# Altium footprint library micro-siemens.PCBLIB: 57 footprints (part 4 of 5)
Each footprint in its own frame and in the unit in brackets; x right, y up, seen from the top. Pads: shape width x height; smd on the part's side, far side on the other; paste and mask are expansions set on the pad; w line width, h text height; cw(c..) or ccw(c..) is an arc to the next point about the centre after c.
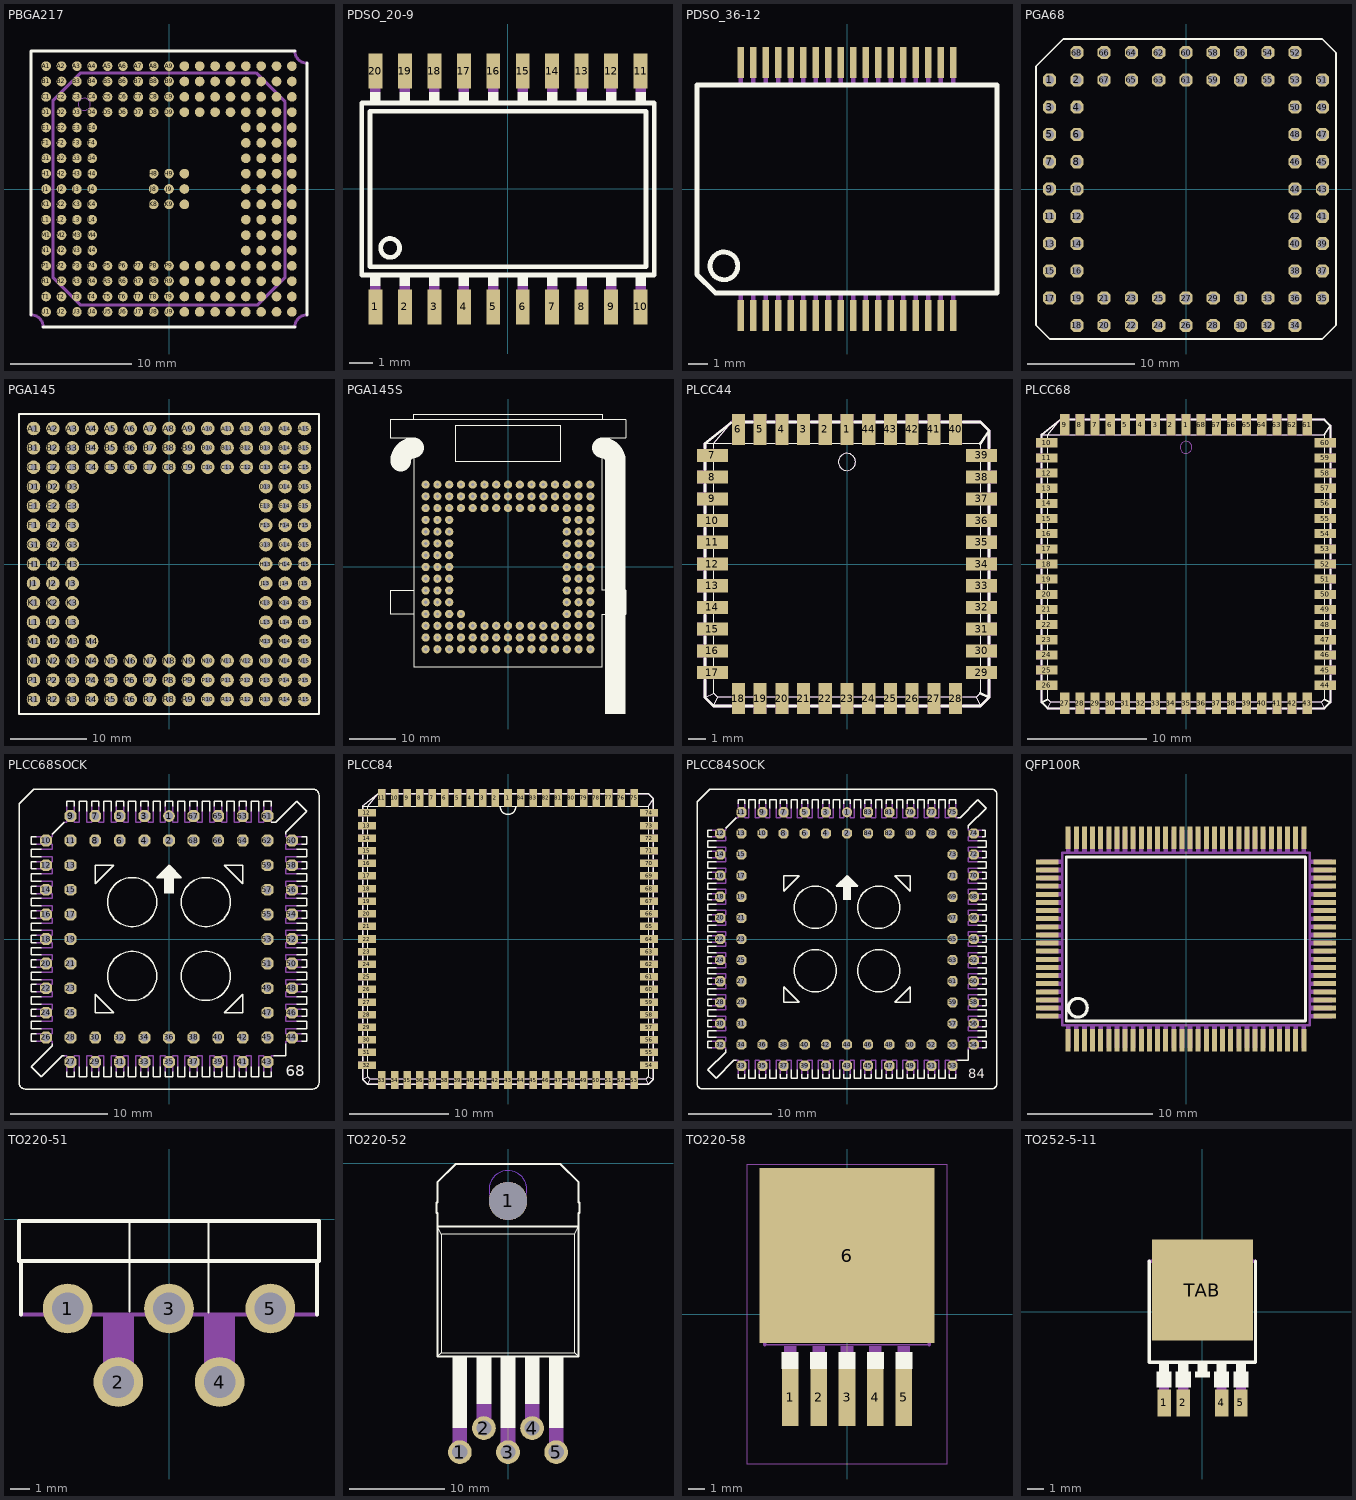
[diagram p3: the footprints below, top view; thin cyan lines are the x and y axes]

## PBGA217 [mil]
pads (217):
  rrect100% 31.5x31.5 smd: A1(-400,400) A2(-350,400) A3(-300,400) A4(-250,400) A5(-200,400) A6(-150,400) A7(-100,400) A8(-50,400) A9(0,400) A10(50,400) A11(100,400) A12(150,400) A13(200,400) A14(250,400) A15(300,400) A16(350,400) A17(400,400) B1(-400,350) B2(-350,350) B3(-300,350) B4(-250,350) B5(-200,350) B6(-150,350) B7(-100,350) B8(-50,350) B9(0,350) B10(50,350) B11(100,350) B12(150,350) B13(200,350) B14(250,350) B15(300,350) B16(350,350) B17(400,350) C1(-400,300) C2(-350,300) C3(-300,300) C4(-250,300) C5(-200,300) C6(-150,300) C7(-100,300) C8(-50,300) C9(0,300) C10(50,300) C11(100,300) C12(150,300) C13(200,300) C14(250,300) C15(300,300) C16(350,300) C17(400,300) D1(-400,250) D2(-350,250) D3(-300,250) D4(-250,250) D5(-200,250) D6(-150,250) D7(-100,250) D8(-50,250) D9(0,250) D10(50,250) D11(100,250) D12(150,250) D13(200,250) D14(250,250) D15(300,250) D16(350,250) D17(400,250) E1(-400,200) E2(-350,200) E3(-300,200) E4(-250,200) E14(250,200) E15(300,200) E16(350,200) E17(400,200) F1(-400,150) F2(-350,150) F3(-300,150) F4(-250,150) F14(250,150) F15(300,150) F16(350,150) F17(400,150) G1(-400,100) G2(-350,100) G3(-300,100) G4(-250,100) G14(250,100) G15(300,100) G16(350,100) G17(400,100) H1(-400,50) H2(-350,50) H3(-300,50) H4(-250,50) H8(-50,50) H9(0,50) H10(50,50) H14(250,50) H15(300,50) H16(350,50) H17(400,50) J1(-400,0) J2(-350,0) J3(-300,0) J4(-250,0) J8(-50,0) J9(0,0) J10(50,0) J14(250,0) J15(300,0) J16(350,0) J17(400,0) K1(-400,-50) K2(-350,-50) K3(-300,-50) K4(-250,-50) K8(-50,-50) K9(0,-50) K10(50,-50) K14(250,-50) K15(300,-50) K16(350,-50) K17(400,-50) L1(-400,-100) L2(-350,-100) L3(-300,-100) L4(-250,-100) L14(250,-100) L15(300,-100) L16(350,-100) L17(400,-100) M1(-400,-150) M2(-350,-150) M3(-300,-150) M4(-250,-150) M14(250,-150) M15(300,-150) M16(350,-150) M17(400,-150) N1(-400,-200) N2(-350,-200) N3(-300,-200) N4(-250,-200) N14(250,-200) N15(300,-200) N16(350,-200) N17(400,-200) P1(-400,-250) P2(-350,-250) P3(-300,-250) P4(-250,-250) P5(-200,-250) P6(-150,-250) P7(-100,-250) P8(-50,-250) P9(0,-250) P10(50,-250) P11(100,-250) P12(150,-250) P13(200,-250) P14(250,-250) P15(300,-250) P16(350,-250) P17(400,-250) R1(-400,-300) R2(-350,-300) R3(-300,-300) R4(-250,-300) R5(-200,-300) R6(-150,-300) R7(-100,-300) R8(-50,-300) R9(0,-300) R10(50,-300) R11(100,-300) R12(150,-300) R13(200,-300) R14(250,-300) R15(300,-300) R16(350,-300) R17(400,-300) T1(-400,-350) T2(-350,-350) T3(-300,-350) T4(-250,-350) T5(-200,-350) T6(-150,-350) T7(-100,-350) T8(-50,-350) T9(0,-350) T10(50,-350) T11(100,-350) T12(150,-350) T13(200,-350) T14(250,-350) T15(300,-350) T16(350,-350) T17(400,-350) U1(-400,-400) U2(-350,-400) U3(-300,-400) U4(-250,-400) U5(-200,-400) U6(-150,-400) U7(-100,-400) U8(-50,-400) U9(0,-400) U10(50,-400) U11(100,-400) U12(150,-400) U13(200,-400) U14(250,-400) U15(300,-400) U16(350,-400) U17(400,-400)
Top Overlay:
  lines w10: -448.82,-409.45 -448.82,448.82 409.45,448.82 ; -409.45,-448.82 409.45,-448.82 ; 448.82,-409.45 448.82,409.45
Mechanical 16:
  circle w0: c-275.59,275.59 r19.69
  lines w10: -448.82,-409.45 cw(c-448.82,-448.82) -409.45,-448.82 ; 409.45,-448.82 cw(c448.82,-448.82) 448.82,-409.45 ; 409.45,448.82 ccw(c448.82,448.82) 448.82,409.45 ; -377.95,-287.4 -287.4,-377.95 287.4,-377.95 377.95,-287.4 377.95,283.46 283.46,377.95 -287.4,377.95 -377.95,287.4 -377.95,-287.4

## PDSO_20-9 [mm]
pads (20):
  rect 0.6x1.5 smd: 1(-5.715,-5.08) 2(-4.445,-5.08) 3(-3.175,-5.08) 4(-1.905,-5.08) 5(-0.635,-5.08) 6(0.635,-5.08) 7(1.905,-5.08) 8(3.175,-5.08) 9(4.445,-5.08) 10(5.715,-5.08) 11(5.715,5.08) 12(4.445,5.08) 13(3.175,5.08) 14(1.905,5.08) 15(0.635,5.08) 16(-0.635,5.08) 17(-1.905,5.08) 18(-3.175,5.08) 19(-4.445,5.08) 20(-5.715,5.08)
Top Overlay:
  circle w0.203: c-5.08,-2.54 r0.406
  rectangle: -5.944,-4.191 -5.486,-3.734
  rectangle: -4.674,-4.191 -4.216,-3.734
  rectangle: -3.404,-4.191 -2.946,-3.734
  rectangle: -2.134,-4.191 -1.676,-3.734
  rectangle: -0.864,-4.191 -0.406,-3.734
  rectangle: 0.406,-4.191 0.864,-3.734
  rectangle: 1.676,-4.191 2.134,-3.734
  rectangle: 2.946,-4.191 3.404,-3.734
  rectangle: 4.216,-4.191 4.674,-3.734
  rectangle: 5.486,-4.191 5.944,-3.734
  rectangle: 5.486,3.734 5.944,4.191
  rectangle: 4.216,3.734 4.674,4.191
  rectangle: 2.946,3.734 3.404,4.191
  rectangle: 1.676,3.734 2.134,4.191
  rectangle: 0.406,3.734 0.864,4.191
  rectangle: -0.864,3.734 -0.406,4.191
  rectangle: -2.134,3.734 -1.676,4.191
  rectangle: -3.404,3.734 -2.946,4.191
  rectangle: -4.674,3.734 -4.216,4.191
  rectangle: -5.944,3.734 -5.486,4.191
  lines w0.203: -6.299,-3.708 6.299,-3.708 6.299,3.708 -6.299,3.708 -6.299,-3.708 ; -5.944,-3.353 5.944,-3.353 5.944,3.353 -5.944,3.353 -5.944,-3.353
Mechanical 16:
  rectangle: -5.944,-5.156 -5.486,-4.191
  rectangle: -4.674,-5.156 -4.216,-4.191
  rectangle: -3.404,-5.156 -2.946,-4.191
  rectangle: -2.134,-5.156 -1.676,-4.191
  rectangle: -0.864,-5.156 -0.406,-4.191
  rectangle: 0.406,-5.156 0.864,-4.191
  rectangle: 1.676,-5.156 2.134,-4.191
  rectangle: 2.946,-5.156 3.404,-4.191
  rectangle: 4.216,-5.156 4.674,-4.191
  rectangle: 5.486,-5.156 5.944,-4.191
  rectangle: 5.486,4.191 5.944,5.156
  rectangle: 4.216,4.191 4.674,5.156
  rectangle: 2.946,4.191 3.404,5.156
  rectangle: 1.676,4.191 2.134,5.156
  rectangle: 0.406,4.191 0.864,5.156
  rectangle: -0.864,4.191 -0.406,5.156
  rectangle: -2.134,4.191 -1.676,5.156
  rectangle: -3.404,4.191 -2.946,5.156
  rectangle: -4.674,4.191 -4.216,5.156
  rectangle: -5.944,4.191 -5.486,5.156

## PDSO_36-12 [mm]
pads (36):
  rect 0.35x1.6 smd: 1(-5.525,-6.575) 2(-4.875,-6.575) 3(-4.225,-6.575) 4(-3.575,-6.575) 5(-2.925,-6.575) 6(-2.275,-6.575) 7(-1.625,-6.575) 8(-0.975,-6.575) 9(-0.325,-6.575) 10(0.325,-6.575) 11(0.975,-6.575) 12(1.625,-6.575) 13(2.275,-6.575) 14(2.925,-6.575) 15(3.575,-6.575) 16(4.225,-6.575) 17(4.875,-6.575) 18(5.525,-6.575) 19(5.525,6.575) 20(4.875,6.575) 21(4.225,6.575) 22(3.575,6.575) 23(2.925,6.575) 24(2.275,6.575) 25(1.625,6.575) 26(0.975,6.575) 27(0.325,6.575) 28(-0.325,6.575) 29(-0.975,6.575) 30(-1.625,6.575) 31(-2.275,6.575) 32(-2.925,6.575) 33(-3.575,6.575) 34(-4.225,6.575) 35(-4.875,6.575) 36(-5.525,6.575)
Top Overlay:
  circle w0.254: c-6.4,-4 r0.721
  lines w0.254: -7.8,-4.45 -7.8,5.4 7.8,5.4 7.8,-5.4 -6.85,-5.4 -7.8,-4.45
Mechanical 16:
  rectangle: -5.65,-7.1 -5.4,-5.5
  rectangle: -5,-7.1 -4.75,-5.5
  rectangle: -4.35,-7.1 -4.1,-5.5
  rectangle: -3.7,-7.1 -3.45,-5.5
  rectangle: -3.05,-7.1 -2.8,-5.5
  rectangle: -2.4,-7.1 -2.15,-5.5
  rectangle: -1.75,-7.1 -1.5,-5.5
  rectangle: -1.1,-7.1 -0.85,-5.5
  rectangle: -0.45,-7.1 -0.2,-5.5
  rectangle: 0.2,-7.1 0.45,-5.5
  rectangle: 0.85,-7.1 1.1,-5.5
  rectangle: 1.5,-7.1 1.75,-5.5
  rectangle: 2.15,-7.1 2.4,-5.5
  rectangle: 2.8,-7.1 3.05,-5.5
  rectangle: 3.45,-7.1 3.7,-5.5
  rectangle: 4.1,-7.1 4.35,-5.5
  rectangle: 4.75,-7.1 5,-5.5
  rectangle: 5.4,-7.1 5.65,-5.5
  rectangle: 5.4,5.5 5.65,7.1
  rectangle: 4.75,5.5 5,7.1
  rectangle: 4.1,5.5 4.35,7.1
  rectangle: 3.45,5.5 3.7,7.1
  rectangle: 2.8,5.5 3.05,7.1
  rectangle: 2.15,5.5 2.4,7.1
  rectangle: 1.5,5.5 1.75,7.1
  rectangle: 0.85,5.5 1.1,7.1
  rectangle: 0.2,5.5 0.45,7.1
  rectangle: -0.45,5.5 -0.2,7.1
  rectangle: -1.1,5.5 -0.85,7.1
  rectangle: -1.75,5.5 -1.5,7.1
  rectangle: -2.4,5.5 -2.15,7.1
  rectangle: -3.05,5.5 -2.8,7.1
  rectangle: -3.7,5.5 -3.45,7.1
  rectangle: -4.35,5.5 -4.1,7.1
  rectangle: -5,5.5 -4.75,7.1
  rectangle: -5.65,5.5 -5.4,7.1

## PGA68 [mil]
pads (68):
  oct 48x48 hole 32: 1(-500,400) 2(-400,400) 3(-500,300) 4(-400,300) 5(-500,200) 6(-400,200) 7(-500,100) 8(-400,100) 9(-500,0) 10(-400,0) 11(-500,-100) 12(-400,-100) 13(-500,-200) 14(-400,-200) 15(-500,-300) 16(-400,-300) 17(-500,-400) 18(-400,-500) 19(-400,-400) 20(-300,-500) 21(-300,-400) 22(-200,-500) 23(-200,-400) 24(-100,-500) 25(-100,-400) 26(0,-500) 27(0,-400) 28(100,-500) 29(100,-400) 30(200,-500) 31(200,-400) 32(300,-500) 33(300,-400) 34(400,-500) 35(500,-400) 36(400,-400) 37(500,-300) 38(400,-300) 39(500,-200) 40(400,-200) 41(500,-100) 42(400,-100) 43(500,0) 44(400,0) 45(500,100) 46(400,100) 47(500,200) 48(400,200) 49(500,300) 50(400,300) 51(500,400) 52(400,500) 53(400,400) 54(300,500) 55(300,400) 56(200,500) 57(200,400) 58(100,500) 59(100,400) 60(0,500) 61(0,400) 62(-100,500) 63(-100,400) 64(-200,500) 65(-200,400) 66(-300,500) 67(-300,400) 68(-400,500)
Top Overlay:
  lines w6: -550,-500 -500,-550 500,-550 550,-500 550,500 500,550 -450,550 -550,450 -550,-500

## PGA145 [mil]
pads (145):
  round 70 hole 32: A1(-700,700) A2(-600,700) A3(-500,700) A4(-400,700) A5(-300,700) A6(-200,700) A7(-100,700) A8(0,700) A9(100,700) A10(200,700) A11(300,700) A12(400,700) A13(500,700) A14(600,700) A15(700,700) B1(-700,600) B2(-600,600) B3(-500,600) B4(-400,600) B5(-300,600) B6(-200,600) B7(-100,600) B8(0,600) B9(100,600) B10(200,600) B11(300,600) B12(400,600) B13(500,600) B14(600,600) B15(700,600) C1(-700,500) C2(-600,500) C3(-500,500) C4(-400,500) C5(-300,500) C6(-200,500) C7(-100,500) C8(0,500) C9(100,500) C10(200,500) C11(300,500) C12(400,500) C13(500,500) C14(600,500) C15(700,500) D1(-700,400) D2(-600,400) D3(-500,400) D13(500,400) D14(600,400) D15(700,400) E1(-700,300) E2(-600,300) E3(-500,300) E13(500,300) E14(600,300) E15(700,300) F1(-700,200) F2(-600,200) F3(-500,200) F13(500,200) F14(600,200) F15(700,200) G1(-700,100) G2(-600,100) G3(-500,100) G13(500,100) G14(600,100) G15(700,100) H1(-700,0) H2(-600,0) H3(-500,0) H13(500,0) H14(600,0) H15(700,0) J1(-700,-100) J2(-600,-100) J3(-500,-100) J13(500,-100) J14(600,-100) J15(700,-100) K1(-700,-200) K2(-600,-200) K3(-500,-200) K13(500,-200) K14(600,-200) K15(700,-200) L1(-700,-300) L2(-600,-300) L3(-500,-300) L13(500,-300) L14(600,-300) L15(700,-300) M1(-700,-400) M2(-600,-400) M3(-500,-400) M4(-400,-400) M13(500,-400) M14(600,-400) M15(700,-400) N1(-700,-500) N2(-600,-500) N3(-500,-500) N4(-400,-500) N5(-300,-500) N6(-200,-500) N7(-100,-500) N8(0,-500) N9(100,-500) N10(200,-500) N11(300,-500) N12(400,-500) N13(500,-500) N14(600,-500) N15(700,-500) P1(-700,-600) P2(-600,-600) P3(-500,-600) P4(-400,-600) P5(-300,-600) P6(-200,-600) P7(-100,-600) P8(0,-600) P9(100,-600) P10(200,-600) P11(300,-600) P12(400,-600) P13(500,-600) P14(600,-600) P15(700,-600) R1(-700,-700) R2(-600,-700) R3(-500,-700) R4(-400,-700) R5(-300,-700) R6(-200,-700) R7(-100,-700) R8(0,-700) R9(100,-700) R10(200,-700) R11(300,-700) R12(400,-700) R13(500,-700) R14(600,-700) R15(700,-700)
Top Overlay:
  lines w10: -775,-775 775,-775 775,775 -775,775 -775,-775

## PGA145S [mil]
pads (145):
  round 70 hole 27.56: A1(-700,700) A2(-600,700) A3(-500,700) A4(-400,700) A5(-300,700) A6(-200,700) A7(-100,700) A8(0,700) A9(100,700) A10(200,700) A11(300,700) A12(400,700) A13(500,700) A14(600,700) A15(700,700) B1(-700,600) B2(-600,600) B3(-500,600) B4(-400,600) B5(-300,600) B6(-200,600) B7(-100,600) B8(0,600) B9(100,600) B10(200,600) B11(300,600) B12(400,600) B13(500,600) B14(600,600) B15(700,600) C1(-700,500) C2(-600,500) C3(-500,500) C4(-400,500) C5(-300,500) C6(-200,500) C7(-100,500) C8(0,500) C9(100,500) C10(200,500) C11(300,500) C12(400,500) C13(500,500) C14(600,500) C15(700,500) D1(-700,400) D2(-600,400) D3(-500,400) D13(500,400) D14(600,400) D15(700,400) E1(-700,300) E2(-600,300) E3(-500,300) E13(500,300) E14(600,300) E15(700,300) F1(-700,200) F2(-600,200) F3(-500,200) F13(500,200) F14(600,200) F15(700,200) G1(-700,100) G2(-600,100) G3(-500,100) G13(500,100) G14(600,100) G15(700,100) H1(-700,0) H2(-600,0) H3(-500,0) H13(500,0) H14(600,0) H15(700,0) J1(-700,-100) J2(-600,-100) J3(-500,-100) J13(500,-100) J14(600,-100) J15(700,-100) K1(-700,-200) K2(-600,-200) K3(-500,-200) K13(500,-200) K14(600,-200) K15(700,-200) L1(-700,-300) L2(-600,-300) L3(-500,-300) L13(500,-300) L14(600,-300) L15(700,-300) M1(-700,-400) M2(-600,-400) M3(-500,-400) M4(-400,-400) M13(500,-400) M14(600,-400) M15(700,-400) N1(-700,-500) N2(-600,-500) N3(-500,-500) N4(-400,-500) N5(-300,-500) N6(-200,-500) N7(-100,-500) N8(0,-500) N9(100,-500) N10(200,-500) N11(300,-500) N12(400,-500) N13(500,-500) N14(600,-500) N15(700,-500) P1(-700,-600) P2(-600,-600) P3(-500,-600) P4(-400,-600) P5(-300,-600) P6(-200,-600) P7(-100,-600) P8(0,-600) P9(100,-600) P10(200,-600) P11(300,-600) P12(400,-600) P13(500,-600) P14(600,-600) P15(700,-600) R1(-700,-700) R2(-600,-700) R3(-500,-700) R4(-400,-700) R5(-300,-700) R6(-200,-700) R7(-100,-700) R8(0,-700) R9(100,-700) R10(200,-700) R11(300,-700) R12(400,-700) R13(500,-700) R14(600,-700) R15(700,-700)
Top Overlay:
  rectangle: 825,-1250 1000,925
  lines w10: -800,-400 -1000,-400 -1000,-200 -800,-200 ; -800,-400 -800,-850 800,-850 800,-400 1000,-400 1000,-200 800,-200 800,1012.5 800,1100 1000,1100 1000,1250 800,1250 ; -800,-400 -800,-200 ; -800,-200 -800,1012.5 -800,1100 -1000,1100 -1000,1250 -800,1250 ; -800,1250 800,1250 ; -800,1250 -800,1300 800,1300 800,1250 ; -450,900 -450,1200 450,1200 450,900 -450,900
  lines w175: -912.5,900 cw(c-800,900) -800,1012.5 ; 800,1012.5 cw(c800,900) 912.5,900

## PLCC44 [mm]
pads (44):
  rect 0.76x1.8 smd: 1(0,7.86) 2(-1.27,7.86) 3(-2.54,7.86) 4(-3.81,7.86) 5(-5.08,7.86) 6(-6.35,7.86) 18(-6.35,-7.86) 19(-5.08,-7.86) 20(-3.81,-7.86) 21(-2.54,-7.86) 22(-1.27,-7.86) 23(0,-7.86) 24(1.27,-7.86) 25(2.54,-7.86) 26(3.81,-7.86) 27(5.08,-7.86) 28(6.35,-7.86) 40(6.35,7.86) 41(5.08,7.86) 42(3.81,7.86) 43(2.54,7.86) 44(1.27,7.86)
  rect 1.8x0.76 smd: 7(-7.86,6.35) 8(-7.86,5.08) 9(-7.86,3.81) 10(-7.86,2.54) 11(-7.86,1.27) 12(-7.86,0) 13(-7.86,-1.27) 14(-7.86,-2.54) 15(-7.86,-3.81) 16(-7.86,-5.08) 17(-7.86,-6.35) 29(7.86,-6.35) 30(7.86,-5.08) 31(7.86,-3.81) 32(7.86,-2.54) 33(7.86,-1.27) 34(7.86,0) 35(7.86,1.27) 36(7.86,2.54) 37(7.86,3.81) 38(7.86,5.08) 39(7.86,6.35)
Top Overlay:
  circle w0.051: c0,5.96 r0.5
  lines w0.051: -8.29,-7.79 -7.79,-7.54 ; -8.29,7.04 -7.79,7.04 ; -7.79,-8.29 -7.54,-7.79 ; -7.79,-6.75 -7.79,-7.54 ; -7.79,-5.95 -7.79,-5.48 ; -7.79,-4.68 -7.79,-4.21 ; -7.79,-3.41 -7.79,-2.94 ; -7.79,-2.14 -7.79,-1.67 ; -7.79,-0.87 -7.79,-0.4 ; -7.79,0.4 -7.79,0.87 ; -7.79,1.67 -7.79,2.14 ; -7.79,2.94 -7.79,3.41 ; -7.79,4.21 -7.79,4.68 ; -7.79,5.48 -7.79,5.95 ; -7.79,6.75 -7.79,7.04 ; -6.75,-7.79 -7.54,-7.79 ; -6.75,7.04 -7.79,7.04 ; -6.75,8.27 -7.79,7.04 ; -5.95,-7.79 -5.48,-7.79 ; -5.95,7.04 -5.48,7.04 ; -4.68,-7.79 -4.21,-7.79 ; -4.68,7.04 -4.21,7.04 ; -3.41,-7.79 -2.94,-7.79 ; -3.41,7.04 -2.94,7.04 ; -2.14,-7.79 -1.67,-7.79 ; -2.14,7.04 -1.67,7.04 ; -0.87,-7.79 -0.4,-7.79 ; -0.87,7.04 -0.4,7.04 ; 0.4,-7.79 0.87,-7.79 ; 0.4,7.04 0.87,7.04 ; 1.67,-7.79 2.14,-7.79 ; 1.67,7.04 2.14,7.04 ; 2.94,-7.79 3.41,-7.79 ; 2.94,7.04 3.41,7.04 ; 4.21,-7.79 4.68,-7.79 ; 4.21,7.04 4.68,7.04 ; 5.48,-7.79 5.95,-7.79 ; 5.48,7.04 5.95,7.04 ; 6.75,-7.79 7.54,-7.79 ; 6.75,7.04 7.79,7.04 7.79,6.75 ; 7.79,-8.29 7.54,-7.79 ; 7.79,-6.75 7.79,-7.54 7.54,-7.79 ; 7.79,-5.95 7.79,-5.48 ; 7.79,-4.68 7.79,-4.21 ; 7.79,-3.41 7.79,-2.94 ; 7.79,-2.14 7.79,-1.67 ; 7.79,-0.87 7.79,-0.4 ; 7.79,0.4 7.79,0.87 ; 7.79,1.67 7.79,2.14 ; 7.79,2.94 7.79,3.41 ; 7.79,4.21 7.79,4.68 ; 7.79,5.48 7.79,5.95 ; -7.79,-7.54 -7.54,-7.79
  lines w0.152: -8.29,-6.79 -8.29,-7.79 -7.79,-8.29 -6.79,-8.29 ; -8.29,-5.91 -8.29,-5.52 ; -8.29,-4.64 -8.29,-4.25 ; -8.29,-3.37 -8.29,-2.98 ; -8.29,-2.1 -8.29,-1.71 ; -8.29,-0.83 -8.29,-0.44 ; -8.29,0.44 -8.29,0.83 ; -8.29,1.71 -8.29,2.1 ; -8.29,2.98 -8.29,3.37 ; -8.29,4.25 -8.29,4.64 ; -8.29,5.52 -8.29,5.91 ; -8.29,6.79 -8.29,7.04 -6.79,8.24 ; -5.91,-8.29 -5.52,-8.29 ; -5.91,8.29 -5.52,8.29 ; -4.64,-8.29 -4.25,-8.29 ; -4.64,8.29 -4.25,8.29 ; -3.37,-8.29 -2.98,-8.29 ; -3.37,8.29 -2.98,8.29 ; -2.1,-8.29 -1.71,-8.29 ; -2.1,8.29 -1.71,8.29 ; -0.83,-8.29 -0.44,-8.29 ; -0.83,8.29 -0.44,8.29 ; 0.44,-8.29 0.83,-8.29 ; 0.44,8.29 0.83,8.29 ; 1.71,-8.29 2.1,-8.29 ; 1.71,8.29 2.1,8.29 ; 2.98,-8.29 3.37,-8.29 ; 2.98,8.29 3.37,8.29 ; 4.25,-8.29 4.64,-8.29 ; 4.25,8.29 4.64,8.29 ; 5.52,-8.29 5.91,-8.29 ; 5.52,8.29 5.91,8.29 ; 6.79,-8.29 7.79,-8.29 8.29,-7.79 ; 6.79,8.29 7.79,8.29 8.29,7.79 ; 7.79,-7.54 8.29,-7.79 ; 7.79,7.04 8.29,7.79 ; 8.29,-6.79 8.29,-7.79 ; 8.29,-5.91 8.29,-5.52 ; 8.29,-4.64 8.29,-4.25 ; 8.29,-3.37 8.29,-2.98 ; 8.29,-2.1 8.29,-1.71 ; 8.29,-0.83 8.29,-0.44 ; 8.29,0.44 8.29,0.83 ; 8.29,1.71 8.29,2.1 ; 8.29,2.98 8.29,3.37 ; 8.29,4.25 8.29,4.64 ; 8.29,5.52 8.29,5.91 ; 8.29,6.79 8.29,7.79
Mechanical 16:
  circle w0.051: c0,5.96 r0.5
  rectangle: 8.29,2.16 8.76,2.92
  rectangle: 8.29,0.89 8.76,1.65
  rectangle: 8.29,-0.38 8.76,0.38
  rectangle: 8.29,-1.65 8.76,-0.89
  rectangle: 8.29,-2.92 8.76,-2.16
  rectangle: 8.29,-4.19 8.76,-3.43
  rectangle: 8.29,-5.46 8.76,-4.7
  rectangle: 3.43,-8.76 4.19,-8.29
  rectangle: 2.16,-8.76 2.92,-8.29
  rectangle: 0.89,-8.76 1.65,-8.29
  rectangle: -0.38,-8.76 0.38,-8.29
  rectangle: -1.65,-8.76 -0.89,-8.29
  rectangle: -2.92,-8.76 -2.16,-8.29
  rectangle: -6.73,-8.76 -5.97,-8.29
  rectangle: -8.76,4.7 -8.29,5.46
  rectangle: -8.76,3.43 -8.29,4.19
  rectangle: -8.76,2.16 -8.29,2.92
  rectangle: -8.76,0.89 -8.29,1.65
  rectangle: -8.76,-0.38 -8.29,0.38
  rectangle: -8.76,-1.65 -8.29,-0.89
  rectangle: -8.76,-2.92 -8.29,-2.16
  rectangle: 3.43,8.29 4.19,8.76
  rectangle: 2.16,8.29 2.92,8.76
  rectangle: 0.89,8.29 1.65,8.76
  rectangle: -0.38,8.29 0.38,8.76
  rectangle: -1.65,8.29 -0.89,8.76
  rectangle: -2.92,8.29 -2.16,8.76
  rectangle: -6.73,8.29 -5.97,8.76
  rectangle: 8.29,3.43 8.76,4.19
  rectangle: 8.29,4.7 8.76,5.46
  rectangle: -8.76,-4.19 -8.29,-3.43
  rectangle: -8.76,-5.46 -8.29,-4.7
  rectangle: 4.7,8.29 5.46,8.76
  rectangle: 5.97,8.29 6.73,8.76
  rectangle: -4.19,8.29 -3.43,8.76
  rectangle: -5.46,8.29 -4.7,8.76
  rectangle: -8.76,-6.73 -8.29,-5.97
  rectangle: -5.46,-8.76 -4.7,-8.29
  rectangle: -4.19,-8.76 -3.43,-8.29
  rectangle: 4.7,-8.76 5.46,-8.29
  rectangle: 5.97,-8.76 6.73,-8.29
  rectangle: 8.29,-6.73 8.76,-5.97
  rectangle: 8.29,5.97 8.76,6.73
  rectangle: -8.76,5.97 -8.29,6.73
  lines w0.051: -8.29,-7.79 -7.79,-7.54 ; -8.29,7.04 -7.79,7.04 ; -7.79,-8.29 -7.54,-7.79 ; -6.73,8.29 -7.79,7.04 ; 7.79,-8.29 7.54,-7.79 ; 8.29,-7.79 7.79,-7.54 ; 8.29,7.79 7.79,7.04 ; -7.79,-7.54 -7.54,-7.79 ; -7.79,-7.54 -7.79,7.04 ; -7.79,7.04 7.79,7.04 ; -7.54,-7.79 7.54,-7.79 ; 7.54,-7.79 7.79,-7.54 ; 7.79,-7.54 7.79,7.04
  lines w0.152: -8.29,-7.79 -7.79,-8.29 7.79,-8.29 8.29,-7.79 8.29,7.79 7.79,8.29 -6.73,8.29 -8.29,7.04 -8.29,-7.79

## PLCC68 [mm]
pads (68):
  rect 0.76x1.8 smd: 1(0,11.67) 2(-1.27,11.67) 3(-2.54,11.67) 4(-3.81,11.67) 5(-5.08,11.67) 6(-6.35,11.67) 7(-7.62,11.67) 8(-8.89,11.67) 9(-10.16,11.67) 27(-10.16,-11.67) 28(-8.89,-11.67) 29(-7.62,-11.67) 30(-6.35,-11.67) 31(-5.08,-11.67) 32(-3.81,-11.67) 33(-2.54,-11.67) 34(-1.27,-11.67) 35(0,-11.67) 36(1.27,-11.67) 37(2.54,-11.67) 38(3.81,-11.67) 39(5.08,-11.67) 40(6.35,-11.67) 41(7.62,-11.67) 42(8.89,-11.67) 43(10.16,-11.67) 61(10.16,11.67) 62(8.89,11.67) 63(7.62,11.67) 64(6.35,11.67) 65(5.08,11.67) 66(3.81,11.67) 67(2.54,11.67) 68(1.27,11.67)
  rect 1.8x0.76 smd: 10(-11.67,10.16) 11(-11.67,8.89) 12(-11.67,7.62) 13(-11.67,6.35) 14(-11.67,5.08) 15(-11.67,3.81) 16(-11.67,2.54) 17(-11.67,1.27) 18(-11.67,0) 19(-11.67,-1.27) 20(-11.67,-2.54) 21(-11.67,-3.81) 22(-11.67,-5.08) 23(-11.67,-6.35) 24(-11.67,-7.62) 25(-11.67,-8.89) 26(-11.67,-10.16) 44(11.67,-10.16) 45(11.67,-8.89) 46(11.67,-7.62) 47(11.67,-6.35) 48(11.67,-5.08) 49(11.67,-3.81) 50(11.67,-2.54) 51(11.67,-1.27) 52(11.67,0) 53(11.67,1.27) 54(11.67,2.54) 55(11.67,3.81) 56(11.67,5.08) 57(11.67,6.35) 58(11.67,7.62) 59(11.67,8.89) 60(11.67,10.16)
Top Overlay:
  drawing of 156 lines, arcs and shapes, not listed
Mechanical 16:
  circle w0.051: c0,9.77 r0.5
  rectangle: 12.1,2.16 12.57,2.92
  rectangle: 12.1,0.89 12.57,1.65
  rectangle: 12.1,-0.38 12.57,0.38
  rectangle: 12.1,-1.65 12.57,-0.89
  rectangle: 12.1,-2.92 12.57,-2.16
  rectangle: 12.1,-4.19 12.57,-3.43
  rectangle: 12.1,-5.46 12.57,-4.7
  rectangle: 3.43,-12.57 4.19,-12.1
  rectangle: 2.16,-12.57 2.92,-12.1
  rectangle: 0.89,-12.57 1.65,-12.1
  rectangle: -0.38,-12.57 0.38,-12.1
  rectangle: -1.65,-12.57 -0.89,-12.1
  rectangle: -2.92,-12.57 -2.16,-12.1
  rectangle: -10.54,-12.57 -9.78,-12.1
  rectangle: -12.57,4.7 -12.1,5.46
  rectangle: -12.57,3.43 -12.1,4.19
  rectangle: -12.57,2.16 -12.1,2.92
  rectangle: -12.57,0.89 -12.1,1.65
  rectangle: -12.57,-0.38 -12.1,0.38
  rectangle: -12.57,-1.65 -12.1,-0.89
  rectangle: -12.57,-2.92 -12.1,-2.16
  rectangle: 3.43,12.1 4.19,12.57
  rectangle: 2.16,12.1 2.92,12.57
  rectangle: 0.89,12.1 1.65,12.57
  rectangle: -0.38,12.1 0.38,12.57
  rectangle: -1.65,12.1 -0.89,12.57
  rectangle: -2.92,12.1 -2.16,12.57
  rectangle: -10.54,12.1 -9.78,12.57
  rectangle: 12.1,3.43 12.57,4.19
  rectangle: 12.1,4.7 12.57,5.46
  rectangle: -12.57,-4.19 -12.1,-3.43
  rectangle: -12.57,-5.46 -12.1,-4.7
  rectangle: 4.7,12.1 5.46,12.57
  rectangle: 5.97,12.1 6.73,12.57
  rectangle: -4.19,12.1 -3.43,12.57
  rectangle: -5.46,12.1 -4.7,12.57
  rectangle: -12.57,-6.73 -12.1,-5.97
  rectangle: -5.46,-12.57 -4.7,-12.1
  rectangle: -4.19,-12.57 -3.43,-12.1
  rectangle: 4.7,-12.57 5.46,-12.1
  rectangle: 5.97,-12.57 6.73,-12.1
  rectangle: 12.1,-6.73 12.57,-5.97
  rectangle: 12.1,5.97 12.57,6.73
  rectangle: -12.57,5.97 -12.1,6.73
  rectangle: -6.73,-12.57 -5.97,-12.1
  rectangle: -8,-12.57 -7.24,-12.1
  rectangle: -9.27,-12.57 -8.51,-12.1
  rectangle: -12.57,-8 -12.1,-7.24
  rectangle: -12.57,-9.27 -12.1,-8.51
  rectangle: -12.57,-10.54 -12.1,-9.78
  rectangle: -12.57,7.24 -12.1,8
  rectangle: -12.57,8.51 -12.1,9.27
  rectangle: -12.57,9.78 -12.1,10.54
  rectangle: -6.73,12.1 -5.97,12.57
  rectangle: -8,12.1 -7.24,12.57
  rectangle: -9.27,12.1 -8.51,12.57
  rectangle: 12.1,7.24 12.57,8
  rectangle: 12.1,8.51 12.57,9.27
  rectangle: 12.1,9.78 12.57,10.54
  rectangle: 7.24,12.1 8,12.57
  rectangle: 8.51,12.1 9.27,12.57
  rectangle: 9.78,12.1 10.54,12.57
  rectangle: 12.1,-8 12.57,-7.24
  rectangle: 12.1,-9.27 12.57,-8.51
  rectangle: 12.1,-10.54 12.57,-9.78
  rectangle: 7.24,-12.57 8,-12.1
  rectangle: 8.51,-12.57 9.27,-12.1
  rectangle: 9.78,-12.57 10.54,-12.1
  lines w0.051: -12.1,-11.6 -11.6,-11.35 ; -12.1,10.85 -11.6,10.85 ; -11.6,-12.1 -11.35,-11.6 ; -10.54,12.1 -11.6,10.85 ; 11.6,-12.1 11.35,-11.6 ; 12.1,-11.6 11.6,-11.35 ; 12.1,11.6 11.6,10.85 ; -11.6,-11.35 -11.35,-11.6 ; -11.6,-11.35 -11.6,10.85 ; -11.6,10.85 11.6,10.85 ; -11.35,-11.6 11.35,-11.6 ; 11.35,-11.6 11.6,-11.35 ; 11.6,-11.35 11.6,10.85
  lines w0.152: -12.1,-11.6 -11.6,-12.1 11.6,-12.1 12.1,-11.6 12.1,11.6 11.6,12.1 -10.54,12.1 -12.1,10.85 -12.1,-11.6

## PLCC68SOCK [mil]
pads (68):
  round 48 hole 32: 1(0,500)
  oct 48x48 hole 32: 2(0,400) 3(-100,500) 4(-100,400) 5(-200,500) 6(-200,400) 7(-300,500) 8(-300,400) 9(-400,500) 10(-500,400) 11(-400,400) 12(-500,300) 13(-400,300) 14(-500,200) 15(-400,200) 16(-500,100) 17(-400,100) 18(-500,0) 19(-400,0) 20(-500,-100) 21(-400,-100) 22(-500,-200) 23(-400,-200) 24(-500,-300) 25(-400,-300) 26(-500,-400) 27(-400,-500) 28(-400,-400) 29(-300,-500) 30(-300,-400) 31(-200,-500) 32(-200,-400) 33(-100,-500) 34(-100,-400) 35(0,-500) 36(0,-400) 37(100,-500) 38(100,-400) 39(200,-500) 40(200,-400) 41(300,-500) 42(300,-400) 43(400,-500) 44(500,-400) 45(400,-400) 46(500,-300) 47(400,-300) 48(500,-200) 49(400,-200) 50(500,-100) 51(400,-100) 52(500,0) 53(400,0) 54(500,100) 55(400,100) 56(500,200) 57(400,200) 58(500,300) 59(400,300) 60(500,400) 61(400,500) 62(400,400) 63(300,500) 64(300,400) 65(200,500) 66(200,400) 67(100,500) 68(100,400)
Top Overlay:
  drawing of 259 lines, arcs and shapes, not listed
  text "68" at 475,-575 h77.5
Mechanical 16:
  drawing of 207 lines, arcs and shapes, not listed

## PLCC84 [mm]
pads (84):
  rect 0.76x1.8 smd: 1(0,14.21) 2(-1.27,14.21) 3(-2.54,14.21) 4(-3.81,14.21) 5(-5.08,14.21) 6(-6.35,14.21) 7(-7.62,14.21) 8(-8.89,14.21) 9(-10.16,14.21) 10(-11.43,14.21) 11(-12.7,14.21) 33(-12.7,-14.21) 34(-11.43,-14.21) 35(-10.16,-14.21) 36(-8.89,-14.21) 37(-7.62,-14.21) 38(-6.35,-14.21) 39(-5.08,-14.21) 40(-3.81,-14.21) 41(-2.54,-14.21) 42(-1.27,-14.21) 43(0,-14.21) 44(1.27,-14.21) 45(2.54,-14.21) 46(3.81,-14.21) 47(5.08,-14.21) 48(6.35,-14.21) 49(7.62,-14.21) 50(8.89,-14.21) 51(10.16,-14.21) 52(11.43,-14.21) 53(12.7,-14.21) 75(12.7,14.21) 76(11.43,14.21) 77(10.16,14.21) 78(8.89,14.21) 79(7.62,14.21) 80(6.35,14.21) 81(5.08,14.21) 82(3.81,14.21) 83(2.54,14.21) 84(1.27,14.21)
  rect 1.8x0.76 smd: 12(-14.21,12.7) 13(-14.21,11.43) 14(-14.21,10.16) 15(-14.21,8.89) 16(-14.21,7.62) 17(-14.21,6.35) 18(-14.21,5.08) 19(-14.21,3.81) 20(-14.21,2.54) 21(-14.21,1.27) 22(-14.21,0) 23(-14.21,-1.27) 24(-14.21,-2.54) 25(-14.21,-3.81) 26(-14.21,-5.08) 27(-14.21,-6.35) 28(-14.21,-7.62) 29(-14.21,-8.89) 30(-14.21,-10.16) 31(-14.21,-11.43) 32(-14.21,-12.7) 54(14.21,-12.7) 55(14.21,-11.43) 56(14.21,-10.16) 57(14.21,-8.89) 58(14.21,-7.62) 59(14.21,-6.35) 60(14.21,-5.08) 61(14.21,-3.81) 62(14.21,-2.54) 63(14.21,-1.27) 64(14.21,0) 65(14.21,1.27) 66(14.21,2.54) 67(14.21,3.81) 68(14.21,5.08) 69(14.21,6.35) 70(14.21,7.62) 71(14.21,8.89) 72(14.21,10.16) 73(14.21,11.43) 74(14.21,12.7)
Top Overlay:
  drawing of 189 lines, arcs and shapes, not listed
Mechanical 16:
  rectangle: 14.64,2.16 15.11,2.92
  rectangle: 14.64,0.89 15.11,1.65
  rectangle: 14.64,-0.38 15.11,0.38
  rectangle: 14.64,-1.65 15.11,-0.89
  rectangle: 14.64,-2.92 15.11,-2.16
  rectangle: 14.64,-4.19 15.11,-3.43
  rectangle: 14.64,-5.46 15.11,-4.7
  rectangle: 3.43,-15.11 4.19,-14.64
  rectangle: 2.16,-15.11 2.92,-14.64
  rectangle: 0.89,-15.11 1.65,-14.64
  rectangle: -0.38,-15.11 0.38,-14.64
  rectangle: -1.65,-15.11 -0.89,-14.64
  rectangle: -2.92,-15.11 -2.16,-14.64
  rectangle: -13.08,-15.11 -12.32,-14.64
  rectangle: -15.11,4.7 -14.64,5.46
  rectangle: -15.11,3.43 -14.64,4.19
  rectangle: -15.11,2.16 -14.64,2.92
  rectangle: -15.11,0.89 -14.64,1.65
  rectangle: -15.11,-0.38 -14.64,0.38
  rectangle: -15.11,-1.65 -14.64,-0.89
  rectangle: -15.11,-2.92 -14.64,-2.16
  rectangle: 3.43,14.64 4.19,15.11
  rectangle: 2.16,14.64 2.92,15.11
  rectangle: 0.89,14.64 1.65,15.11
  rectangle: -0.38,14.64 0.38,15.11
  rectangle: -1.65,14.64 -0.89,15.11
  rectangle: -2.92,14.64 -2.16,15.11
  rectangle: -13.08,14.64 -12.32,15.11
  rectangle: 14.64,3.43 15.11,4.19
  rectangle: 14.64,4.7 15.11,5.46
  rectangle: -15.11,-4.19 -14.64,-3.43
  rectangle: -15.11,-5.46 -14.64,-4.7
  rectangle: 4.7,14.64 5.46,15.11
  rectangle: 5.97,14.64 6.73,15.11
  rectangle: -4.19,14.64 -3.43,15.11
  rectangle: -5.46,14.64 -4.7,15.11
  rectangle: -15.11,-6.73 -14.64,-5.97
  rectangle: -5.46,-15.11 -4.7,-14.64
  rectangle: -4.19,-15.11 -3.43,-14.64
  rectangle: 4.7,-15.11 5.46,-14.64
  rectangle: 5.97,-15.11 6.73,-14.64
  rectangle: 14.64,-6.73 15.11,-5.97
  rectangle: 14.64,5.97 15.11,6.73
  rectangle: -15.11,5.97 -14.64,6.73
  rectangle: -6.73,-15.11 -5.97,-14.64
  rectangle: -8,-15.11 -7.24,-14.64
  rectangle: -9.27,-15.11 -8.51,-14.64
  rectangle: -15.11,-8 -14.64,-7.24
  rectangle: -15.11,-9.27 -14.64,-8.51
  rectangle: -15.11,-10.54 -14.64,-9.78
  rectangle: -15.11,7.24 -14.64,8
  rectangle: -15.11,8.51 -14.64,9.27
  rectangle: -15.11,9.78 -14.64,10.54
  rectangle: -6.73,14.64 -5.97,15.11
  rectangle: -8,14.64 -7.24,15.11
  rectangle: -9.27,14.64 -8.51,15.11
  rectangle: 14.64,7.24 15.11,8
  rectangle: 14.64,8.51 15.11,9.27
  rectangle: 14.64,9.78 15.11,10.54
  rectangle: 7.24,14.64 8,15.11
  rectangle: 8.51,14.64 9.27,15.11
  rectangle: 9.78,14.64 10.54,15.11
  rectangle: 14.64,-8 15.11,-7.24
  rectangle: 14.64,-9.27 15.11,-8.51
  rectangle: 14.64,-10.54 15.11,-9.78
  rectangle: 7.24,-15.11 8,-14.64
  rectangle: 8.51,-15.11 9.27,-14.64
  rectangle: 9.78,-15.11 10.54,-14.64
  rectangle: -11.81,-15.11 -11.05,-14.64
  rectangle: -10.54,-15.11 -9.78,-14.64
  rectangle: -15.11,-11.81 -14.64,-11.05
  rectangle: -15.11,-13.08 -14.64,-12.32
  rectangle: -15.11,11.05 -14.64,11.81
  rectangle: -15.11,12.32 -14.64,13.08
  rectangle: -11.81,14.64 -11.05,15.11
  rectangle: -10.54,14.64 -9.78,15.11
  rectangle: 11.05,14.64 11.81,15.11
  rectangle: 12.32,14.64 13.08,15.11
  rectangle: 14.64,11.05 15.11,11.81
  rectangle: 14.64,12.32 15.11,13.08
  rectangle: 11.05,-15.11 11.81,-14.64
  rectangle: 14.64,-11.81 15.11,-11.05
  rectangle: 14.64,-13.08 15.11,-12.32
  rectangle: 12.32,-15.11 13.08,-14.64
  lines w0.051: -14.64,-14.14 -14.14,-13.89 ; -14.64,13.39 -14.14,13.39 ; -14.14,-14.64 -13.89,-14.14 ; -13.08,14.64 -14.14,13.39 ; 14.14,-14.64 13.89,-14.14 ; 14.64,-14.14 14.14,-13.89 ; 14.64,14.14 14.14,13.39 ; -14.14,-13.89 -13.89,-14.14 ; -14.14,-13.89 -14.14,13.39 ; -14.14,13.39 14.14,13.39 ; -13.89,-14.14 13.89,-14.14 ; 13.89,-14.14 14.14,-13.89 ; 14.14,-13.89 14.14,13.39
  lines w0.152: -14.64,-14.14 -14.14,-14.64 14.14,-14.64 14.64,-14.14 14.64,14.14 14.14,14.64 -13.08,14.64 -14.64,13.39 -14.64,-14.14

## PLCC84SOCK [mil]
pads (84):
  round 48 hole 32: 1(0,600)
  oct 48x48 hole 32: 2(0,500) 3(-100,600) 4(-100,500) 5(-200,600) 6(-200,500) 7(-300,600) 8(-300,500) 9(-400,600) 10(-400,500) 11(-500,600) 12(-600,500) 13(-500,500) 14(-600,400) 15(-500,400) 16(-600,300) 17(-500,300) 18(-600,200) 19(-500,200) 20(-600,100) 21(-500,100) 22(-600,0) 23(-500,0) 24(-600,-100) 25(-500,-100) 26(-600,-200) 27(-500,-200) 28(-600,-300) 29(-500,-300) 30(-600,-400) 31(-500,-400) 32(-600,-500) 33(-500,-600) 34(-500,-500) 35(-400,-600) 36(-400,-500) 37(-300,-600) 38(-300,-500) 39(-200,-600) 40(-200,-500) 41(-100,-600) 42(-100,-500) 43(0,-600) 44(0,-500) 45(100,-600) 46(100,-500) 47(200,-600) 48(200,-500) 49(300,-600) 50(300,-500) 51(400,-600) 52(400,-500) 53(500,-600) 54(600,-500) 55(500,-500) 56(600,-400) 57(500,-400) 58(600,-300) 59(500,-300) 60(600,-200) 61(500,-200) 62(600,-100) 63(500,-100) 64(600,0) 65(500,0) 66(600,100) 67(500,100) 68(600,200) 69(500,200) 70(600,300) 71(500,300) 72(600,400) 73(500,400) 74(600,500) 75(500,600) 76(500,500) 77(400,600) 78(400,500) 79(300,600) 80(300,500) 81(200,600) 82(200,500) 83(100,600) 84(100,500)
Top Overlay:
  drawing of 307 lines, arcs and shapes, not listed
  text "84" at 575,-675 h77.5
Mechanical 16:
  drawing of 256 lines, arcs and shapes, not listed

## QFP100R [mm]
pads (100):
  rect 0.4x1.8 smd: 1(-9.425,-8.1) 2(-8.775,-8.1) 3(-8.125,-8.1) 4(-7.475,-8.1) 5(-6.825,-8.1) 6(-6.175,-8.1) 7(-5.525,-8.1) 8(-4.875,-8.1) 9(-4.225,-8.1) 10(-3.575,-8.1) 11(-2.925,-8.1) 12(-2.275,-8.1) 13(-1.625,-8.1) 14(-0.975,-8.1) 15(-0.325,-8.1) 16(0.325,-8.1) 17(0.975,-8.1) 18(1.625,-8.1) 19(2.275,-8.1) 20(2.925,-8.1) 21(3.575,-8.1) 22(4.225,-8.1) 23(4.875,-8.1) 24(5.525,-8.1) 25(6.175,-8.1) 26(6.825,-8.1) 27(7.475,-8.1) 28(8.125,-8.1) 29(8.775,-8.1) 30(9.425,-8.1) 51(9.425,8.1) 52(8.775,8.1) 53(8.125,8.1) 54(7.475,8.1) 55(6.825,8.1) 56(6.175,8.1) 57(5.525,8.1) 58(4.875,8.1) 59(4.225,8.1) 60(3.575,8.1) 61(2.925,8.1) 62(2.275,8.1) 63(1.625,8.1) 64(0.975,8.1) 65(0.325,8.1) 66(-0.325,8.1) 67(-0.975,8.1) 68(-1.625,8.1) 69(-2.275,8.1) 70(-2.925,8.1) 71(-3.575,8.1) 72(-4.225,8.1) 73(-4.875,8.1) 74(-5.525,8.1) 75(-6.175,8.1) 76(-6.825,8.1) 77(-7.475,8.1) 78(-8.125,8.1) 79(-8.775,8.1) 80(-9.425,8.1)
  rect 1.8x0.4 smd: 31(11.1,-6.175) 32(11.1,-5.525) 33(11.1,-4.875) 34(11.1,-4.225) 35(11.1,-3.575) 36(11.1,-2.925) 37(11.1,-2.275) 38(11.1,-1.625) 39(11.1,-0.975) 40(11.1,-0.325) 41(11.1,0.325) 42(11.1,0.975) 43(11.1,1.625) 44(11.1,2.275) 45(11.1,2.925) 46(11.1,3.575) 47(11.1,4.225) 48(11.1,4.875) 49(11.1,5.525) 50(11.1,6.175) 81(-11.1,6.175) 82(-11.1,5.525) 83(-11.1,4.875) 84(-11.1,4.225) 85(-11.1,3.575) 86(-11.1,2.925) 87(-11.1,2.275) 88(-11.1,1.625) 89(-11.1,0.975) 90(-11.1,0.325) 91(-11.1,-0.325) 92(-11.1,-0.975) 93(-11.1,-1.625) 94(-11.1,-2.275) 95(-11.1,-2.925) 96(-11.1,-3.575) 97(-11.1,-4.225) 98(-11.1,-4.875) 99(-11.1,-5.525) 100(-11.1,-6.175)
Top Overlay:
  circle w0.254: c-8.65,-5.5 r0.75
  lines w0.203: -9.57,-6.56 9.56,-6.56 9.56,6.56 -9.57,6.56 -9.57,-6.56
Mechanical 16:
  rectangle: -9.615,-8.72 -9.235,-6.95
  rectangle: 9.95,-6.365 11.72,-5.985
  rectangle: -8.965,-8.72 -8.585,-6.95
  rectangle: -8.315,-8.72 -7.935,-6.95
  rectangle: -7.665,-8.72 -7.285,-6.95
  rectangle: -7.015,-8.72 -6.635,-6.95
  rectangle: -6.365,-8.72 -5.985,-6.95
  rectangle: -5.715,-8.72 -5.335,-6.95
  rectangle: -5.065,-8.72 -4.685,-6.95
  rectangle: -4.415,-8.72 -4.035,-6.95
  rectangle: -3.765,-8.72 -3.385,-6.95
  rectangle: -3.115,-8.72 -2.735,-6.95
  rectangle: -2.465,-8.72 -2.085,-6.95
  rectangle: -1.815,-8.72 -1.435,-6.95
  rectangle: -1.165,-8.72 -0.785,-6.95
  rectangle: -0.515,-8.72 -0.135,-6.95
  rectangle: 0.135,-8.72 0.515,-6.95
  rectangle: 0.785,-8.72 1.165,-6.95
  rectangle: 1.435,-8.72 1.815,-6.95
  rectangle: 2.085,-8.72 2.465,-6.95
  rectangle: 2.735,-8.72 3.115,-6.95
  rectangle: 3.385,-8.72 3.765,-6.95
  rectangle: 4.035,-8.72 4.415,-6.95
  rectangle: 4.685,-8.72 5.065,-6.95
  rectangle: 5.335,-8.72 5.715,-6.95
  rectangle: 5.985,-8.72 6.365,-6.95
  rectangle: 6.635,-8.72 7.015,-6.95
  rectangle: 7.285,-8.72 7.665,-6.95
  rectangle: 7.935,-8.72 8.315,-6.95
  rectangle: 8.585,-8.72 8.965,-6.95
  rectangle: 9.235,-8.72 9.615,-6.95
  rectangle: 9.95,-5.715 11.72,-5.335
  rectangle: 9.95,-5.065 11.72,-4.685
  rectangle: 9.95,-4.415 11.72,-4.035
  rectangle: 9.95,-3.765 11.72,-3.385
  rectangle: 9.95,-3.115 11.72,-2.735
  rectangle: 9.95,-2.465 11.72,-2.085
  rectangle: 9.95,-1.815 11.72,-1.435
  rectangle: 9.95,-1.165 11.72,-0.785
  rectangle: 9.95,-0.515 11.72,-0.135
  rectangle: 9.95,0.135 11.72,0.515
  rectangle: 9.95,0.785 11.72,1.165
  rectangle: 9.95,1.435 11.72,1.815
  rectangle: 9.95,2.085 11.72,2.465
  rectangle: 9.95,2.735 11.72,3.115
  rectangle: 9.95,3.385 11.72,3.765
  rectangle: 9.95,4.035 11.72,4.415
  rectangle: 9.95,4.685 11.72,5.065
  rectangle: 9.95,5.335 11.72,5.715
  rectangle: 9.95,5.985 11.72,6.365
  rectangle: 9.235,6.95 9.615,8.72
  rectangle: 8.585,6.95 8.965,8.72
  rectangle: 7.935,6.95 8.315,8.72
  rectangle: 7.285,6.95 7.665,8.72
  rectangle: 6.635,6.95 7.015,8.72
  rectangle: 5.985,6.95 6.365,8.72
  rectangle: 5.335,6.95 5.715,8.72
  rectangle: 4.685,6.95 5.065,8.72
  rectangle: 4.035,6.95 4.415,8.72
  rectangle: 3.385,6.95 3.765,8.72
  rectangle: 2.735,6.95 3.115,8.72
  rectangle: 2.085,6.95 2.465,8.72
  rectangle: 1.435,6.95 1.815,8.72
  rectangle: 0.785,6.95 1.165,8.72
  rectangle: 0.135,6.95 0.515,8.72
  rectangle: -0.515,6.95 -0.135,8.72
  rectangle: -1.165,6.95 -0.785,8.72
  rectangle: -1.815,6.95 -1.435,8.72
  rectangle: -2.465,6.95 -2.085,8.72
  rectangle: -3.115,6.95 -2.735,8.72
  rectangle: -3.765,6.95 -3.385,8.72
  rectangle: -4.415,6.95 -4.035,8.72
  rectangle: -5.065,6.95 -4.685,8.72
  rectangle: -5.715,6.95 -5.335,8.72
  rectangle: -6.365,6.95 -5.985,8.72
  rectangle: -7.015,6.95 -6.635,8.72
  rectangle: -7.665,6.95 -7.285,8.72
  rectangle: -8.315,6.95 -7.935,8.72
  rectangle: -8.965,6.95 -8.585,8.72
  rectangle: -9.615,6.95 -9.235,8.72
  rectangle: -11.72,5.985 -9.95,6.365
  rectangle: -11.72,5.335 -9.95,5.715
  rectangle: -11.72,4.685 -9.95,5.065
  rectangle: -11.72,4.035 -9.95,4.415
  rectangle: -11.72,3.385 -9.95,3.765
  rectangle: -11.72,2.735 -9.95,3.115
  rectangle: -11.72,2.085 -9.95,2.465
  rectangle: -11.72,1.435 -9.95,1.815
  rectangle: -11.72,0.785 -9.95,1.165
  rectangle: -11.72,0.135 -9.95,0.515
  rectangle: -11.72,-0.515 -9.95,-0.135
  rectangle: -11.72,-1.165 -9.95,-0.785
  rectangle: -11.72,-1.815 -9.95,-1.435
  rectangle: -11.72,-2.465 -9.95,-2.085
  rectangle: -11.72,-3.115 -9.95,-2.735
  rectangle: -11.72,-3.765 -9.95,-3.385
  rectangle: -11.72,-4.415 -9.95,-4.035
  rectangle: -11.72,-5.065 -9.95,-4.685
  rectangle: -11.72,-5.715 -9.95,-5.335
  rectangle: -11.72,-6.365 -9.95,-5.985
  lines w0.203: -9.9,-6.9 9.9,-6.9 9.9,6.9 -9.9,6.9 -9.9,-6.9

## TO220-51 [mm]
pads (5):
  round 2.5 hole 1.6: 1(-5.1,-4.5) 2(-2.55,-8.2) 3(0,-4.5) 4(2.55,-8.2) 5(5.1,-4.5)
Top Overlay:
  lines w0.102: -2,-4.65 -2,-0.2 ; 2,-4.7 2,-0.2
  lines w0.203: -7.55,-2.1 -7.55,-0.1 7.5,-0.1 ; -7.45,-4.8 -7.45,-2.1 7.45,-2.1 7.45,-4.8 ; 7.55,-2.1 7.55,-0.1
Mechanical 16:
  rectangle: -3.31,-8.45 -1.76,-4.8
  rectangle: 1.77,-8.45 3.32,-4.8
  lines w0.203: -7.45,-4.8 7.45,-4.8
  text "P-TO220-5-1" at -3.81,-2.54 h0.94
  text "SIEMENS TLE4270" at -3.81,-3.27 h0.94

## TO220-52 [mm]
pads (6):
  round 2.5 hole 1.6: 1(-5.08,-30.48) 2(-2.54,-27.94) 3(0,-30.48) 4(2.54,-27.94) 5(5.08,-30.48)
  round 4.05 hole 4.05: 1(0,-4)
Top Layer keep-out:
  circle w0: c0,-2.8 r2
Bottom Layer keep-out:
  circle w0: c0,-2.8 r2
Top Overlay:
  rectangle: -5.85,-27.95 -4.3,-20.4
  rectangle: -3.31,-25.41 -1.76,-20.32
  rectangle: -0.77,-27.95 0.78,-20.4
  rectangle: 1.77,-25.41 3.32,-20.32
  rectangle: 4.31,-27.95 5.86,-20.4
  lines w0.102: -7.44,-20.38 -7.04,-19.98 ; -7.34,-6.8 -7.04,-7.5 ; 7.34,-6.8 7.04,-7.5 ; 7.44,-20.38 7.04,-19.98 ; -7.04,-19.98 7.04,-19.98 ; -7.04,-19.98 -7.04,-7.5 ; -7.04,-7.5 7.04,-7.5 ; 7.04,-19.98 7.04,-7.5
  lines w0.203: -7.54,-5.27 -7.54,-4.17 ; -7.45,-4.15 -7.45,-2.05 -5.5,-0.1 5.5,-0.1 7.45,-2.05 7.45,-4.15 ; -7.44,-5.27 -7.44,-6.7 ; 7.44,-5.27 7.44,-6.7 ; 7.54,-5.27 7.54,-4.17 ; -7.44,-6.7 -7.44,-20.38 7.44,-20.38 7.44,-6.7 ; -7.44,-6.7 7.44,-6.7
Mechanical 16:
  rectangle: -5.85,-30.5 -4.3,-27.95
  rectangle: -3.31,-27.96 -1.76,-25.41
  rectangle: -0.77,-30.5 0.78,-27.95
  rectangle: 1.77,-27.96 3.32,-25.41
  rectangle: 4.31,-30.5 5.86,-27.95
  text "P-TO220-5-2" at -3.81,-6.35 h0.94
  text "SIEMENS TLE4270" at -3.81,-8.27 h0.94
Via Holes:
  circle w0: c0,-2.8 r2.7

## TO220-58 [mm]
pads (6):
  rect 1x3.4 smd: 1(-3.4,-5) 2(-1.7,-5) 3(0,-5) 4(1.7,-5) 5(3.4,-5)
  rect 10.5x10.5 smd: 6(0,3.5)
Top Overlay:
  rectangle: -0.508,-3.302 0.508,-2.286
  rectangle: -3.908,-3.302 -2.892,-2.286
  rectangle: -2.208,-3.302 -1.192,-2.286
  rectangle: 1.192,-3.302 2.208,-2.286
  rectangle: 2.892,-3.302 3.908,-2.286
Mechanical 16:
  circle w0.102: c0,0.46 r1
  rectangle: -0.381,-5.461 0.381,-1.905
  rectangle: -3.781,-5.461 -3.019,-1.905
  rectangle: -2.081,-5.461 -1.319,-1.905
  rectangle: 1.319,-5.461 2.081,-1.905
  rectangle: 3.019,-5.461 3.781,-1.905
  region: 0,0 0.254,0 0.254,0.254 0,0.254
  lines w0.102: -4.917,-1.839 4.917,-1.839 ; -4.9,7.1 -4.5,6.2 ; -4.8,-1.7 -4.5,-1.4 ; 4.8,-1.7 4.5,-1.4 ; 4.9,7.1 4.5,6.2 ; -4.5,-1.4 4.5,-1.4 ; -4.5,-1.4 -4.5,6.2 ; -4.5,6.2 4.5,6.2 ; 4.5,-1.4 4.5,6.2
  lines w0.203: -4.917,-1.839 -4.917,7.165 4.917,7.165 4.917,-1.839
Mechanical 27:
  lines w0.051: -5.973,-8.983 5.973,-8.983 5.973,8.983 -5.973,8.983 -5.973,-8.983

## TO252-5-11 [mil]
pads (5):
  rect 31.5x62.99 smd: 1(-89.76,-212.99) 2(-44.88,-212.99) 4(44.88,-212.99) 5(89.76,-212.99)
  rect 236.22x236.22 smd: TAB(0,51.18)
Top Overlay:
  rectangle: -101.57,-151.57 -77.95,-120.08
  rectangle: -107.48,-177.17 -72.05,-139.76
  rectangle: -56.69,-151.57 -33.07,-120.08
  rectangle: -62.6,-177.17 -27.17,-139.76
  rectangle: -11.81,-151.57 11.81,-120.08
  rectangle: -17.72,-153.54 17.72,-139.76
  rectangle: 33.07,-151.57 56.69,-120.08
  rectangle: 27.17,-177.17 62.6,-139.76
  rectangle: 77.95,-151.57 101.57,-120.08
  rectangle: 72.05,-177.17 107.48,-139.76
  lines w8: -124.02,118.11 -124.02,-118.11 124.02,-118.11 124.02,118.11
Mechanical 16:
  circle w0: c-49.59,80.07 r7.76
  circle w0: c-13.78,64.56 r2.28
  circle w0.46: c-4.19,28.97 r2.74
  circle w1.36: c11.78,28.97 r2.74
  circle w1.36: c-4.42,28.97 r2.74
  circle w0: c30.71,34.67 r1.02
  rectangle: -101.57,-230.32 -77.95,-175.2
  rectangle: -56.69,-230.32 -33.07,-175.2
  rectangle: 33.07,-230.32 56.69,-175.2
  rectangle: 77.95,-230.32 101.57,-175.2
  rectangle: -51.41,40.15 -47.54,67.98
  rectangle: -42.29,40.15 -38.64,58.85
  rectangle: -34.76,40.15 -31.11,54.29
  rectangle: -27.23,55.89 -19.02,58.85
  rectangle: -25.41,40.15 -21.76,66.38
  rectangle: -15.6,40.15 -11.95,59.08
  rectangle: 0.37,40.15 4.02,54.06
  rectangle: 8.13,48.82 19.3,51.55
  rectangle: 38.92,40.15 42.57,58.85
  rectangle: 46.44,40.15 50.1,54.29
  rectangle: -7.16,40.15 -3.51,58.85
  rectangle: -51.64,25.78 -50.27,34.67
  rectangle: -52.1,31.02 -49.13,32.17
  rectangle: -45.94,28.74 -40.01,29.88
  rectangle: -26.78,25.78 -25.41,37.18
  rectangle: -22.9,25.78 -21.53,30.57
  rectangle: -16.97,25.78 -15.6,32.17
  rectangle: -13.09,25.78 -11.72,30.57
  rectangle: 3.11,25.78 4.47,37.18
  rectangle: 30.02,25.78 31.39,32.39
  rectangle: 35.95,28.74 41.88,29.88
  region: 0,0 10,0 10,10 0,10
  region: 0,0 10,0 10,10 0,10
  region: 0,0 10,0 10,10 0,10
  region: 0,0 10,0 10,10 0,10
  region: 0,0 10,0 10,10 0,10
  region: 0,0 10,0 10,10 0,10
  region: 0,0 10,0 10,10 0,10
  region: 0,0 10,0 10,10 0,10
  region: 0,0 10,0 10,10 0,10
  lines w1.36: -40.69,27.83 cw(c-43.92,29.47) -41.6,26.69 cw(c-42.92,28.96) -44.57,26.92 cw(c-42.87,28.91) -45.48,28.74 cw(c92.46,29.31) -45.48,29.88 cw(c-42.88,29.52) -43.89,31.94 cw(c-43.08,29.87) -41.83,31.71 cw(c-43.38,29.48) -40.69,29.88 -40.69,29.65 ; 19.54,25.41 ccw(c22.09,25.4) 19.78,24.32 ccw(c21.71,25.2) 20.44,23.5 ccw(c22.07,25.56) 21.65,22.97 ccw(c22.02,25.11) 23.18,23.27 ccw(c21.98,25.42) 24.32,24.64 ccw(c20.1,26.05) 24.55,26 ccw(c-182.36,27.82) 24.55,29.65 ccw(c22.8,29.63) 23.86,31.02 ccw(c19.79,25.74) 23.18,31.48 ccw(c21.93,29.34) 20.67,31.48 ccw(c21.94,29.3) 19.76,30.57 ccw(c22.31,29.09) 19.76,27.6 ccw(c21.94,28.87) 20.67,26.69 ccw(c21.95,28.87) 22.72,26.46 ccw(c22.01,28.7) 24.09,27.6 ccw(c20.17,29.68) 24.55,28.97 ccw(c-92.65,30.68) 24.55,32.39 ; 41.2,27.83 cw(c37.96,29.49) 40.29,26.69 cw(c38.97,28.96) 37.32,26.92 cw(c39.02,28.91) 36.41,28.74 cw(c174.35,29.31) 36.41,29.88 cw(c39.01,29.52) 38,31.94 cw(c38.81,29.87) 40.06,31.71 cw(c38.51,29.48) 41.2,29.88 41.2,29.65 ; 46.22,27.15 ccw(c49.12,30.03) 47.13,26.46 ccw(c47.78,27.62) 48.73,26.69 ccw(c47.77,27.64) 48.96,28.29 ccw(c46.98,27.21) 48.04,29.2 cw(c54.46,41.25) 46.9,29.88 cw(c47.48,30.74) 46.44,30.8 cw(c47.73,30.72) 46.9,31.71 cw(c47.59,30.89) 47.82,31.94 cw(c47.38,29.94) 48.73,31.48
  lines w3.65: 17.48,46.99 cw(c2.16,46.67) 17.37,44.81 cw(c13.05,45.15) 16.51,42.54 cw(c14.26,44.48) 14.51,41.52 cw(c13.85,44.7) 11.78,42.2 cw(c15.42,46.08) 10.86,43.34 cw(c17.65,47.37) 9.95,45.62 cw(c27.47,49.63) 9.72,52.46 cw(c26.9,49.71) 10.18,54.52 cw(c21.8,51.22) 10.86,56.34 cw(c13.38,55.16) 15.2,57.26 cw(c9.09,50.31) 16.11,56.34 cw(c13.62,54.2) 16.56,55.66 cw(c8.79,51.77) 17.48,51.78 17.48,50.87 ; 25,45.17 ccw(c29.06,45.62) 26.83,42.2 ccw(c28.82,45.24) 29.8,41.74 ccw(c28.86,45.06) 32.07,43.8 ccw(c22.14,47.76) 32.76,46.54 ccw(c4.46,49.73) 32.76,52.92 ccw(c25.42,52.1) 31.62,56.11 ccw(c29.01,54.42) 29.57,57.48 ccw(c28.66,52.53) 27.74,57.48 ccw(c28.26,54.61) 25.46,55.43 ccw(c43.5,50.18) 24.78,51.78 ccw(c50.82,49.48) 25,45.39
  lines w8: -124.02,118.11 -108.27,118.11 ; 124.02,118.11 108.27,118.11 ; -108.27,118.11 108.27,118.11 ; -108.27,118.11 -108.27,157.48 -78.74,157.48 -78.74,151.57 78.74,151.57 78.74,157.48 108.27,157.48 108.27,118.11